# Altium integrated library TPA6021A.IntLib: 2 symbols
Pins are listed as number, name and electrical type; pins without a type are passive.

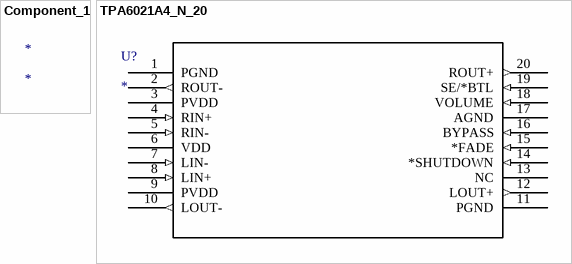
[diagram p0: symbols Component_1 to TPA6021A4_N_20]

## Component_1
designator *

## TPA6021A4_N_20
designator U?
Imported; Manufacturer_Part_Number: tpa6021a4_n_20; GENERIC_PART_NUMBER: TPA6021A4; Vendor: Texas Instruments; PACKAGE_DESIGNATOR: N; PIN_COUNT: 20; FAMILY_NAME: AUDIO SUBSYSTEM; INDUSTRY_STD_PKG_TYPE: PDIP; Datasheet URL: http://www.ti.com/lit/gpn/TPA6021A4; Manufacturer: Texas Instruments; RefDes: RefDes; Type: DEV; Value: Value
footprint N20
pins: 1 PGND (power), 2 ROUT- (out), 3 PVDD (power), 4 RIN+ (in), 5 RIN- (in), 6 VDD (power), 7 LIN- (in), 8 LIN+ (in), 9 PVDD (power), 10 LOUT- (out), 11 PGND (power), 12 LOUT+ (out), 13 NC, 14 *SHUTDOWN (in), 15 *FADE (in), 16 BYPASS (in), 17 AGND (power), 18 VOLUME (in), 19 SE/*BTL (in), 20 ROUT+ (out)